# EAGLE library part ULN200 (library omcTransistor)
ULN200x - Seven Darlington Arrays seven darlingtons per package output current 500mA per driver (600mA peak) output voltage 50V integrated suppression diodes for inductive loads outputs can be paralleled for higher current TTL/CMOS/PMOS/DTL compatible inputs inputs pinned opposite outputs to simplyfy layout STMicroelectronics Datasheet <http://www.st.com/web/en/resource/technical/document/datasheet/CD00001244.pdf> Reichelt Datasheet <http://cdn-reichelt.de/documents/datenblatt/A200/DS_ULN2003_TOS.pdf> Logic level types Type Logic Level ULN2001 General Purpose, DTL, TTL, PMOS, CMOS ULN2002 14-25V PMOS ULN2003 5V TTL, CMOS ULN2004 6–15V CMOS, PMOS Distributor Reichelt: available Conrad: available Digi-Key:
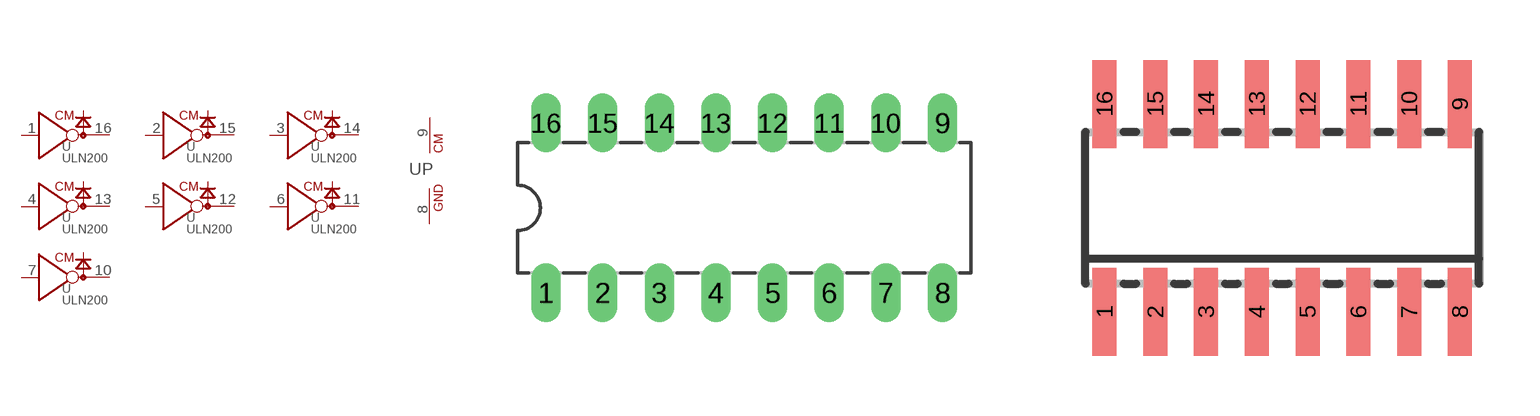
[diagram p1: symbol with the pads of DIL16; footprints DIL16, SOIC16]

Designator prefix U; gates P=GNDCM G$1=INVOC G$2=INVOC G$3=INVOC G$4=INVOC G$5=INVOC G$6=INVOC G$7=INVOC

## ULN2001A (DIST#REICHELT#: ULN 2001A; VALUE: ULN2001A; VENDOR#: STM#ULN2001A), ULN2002A (DIST#REICHELT#: ULN 2002A; VALUE: ULN2003A; VENDOR#: STM#ULN2002A), ULN2003A (DIST#REICHELT#: ULN 2003A; VALUE: ULN2003A; VENDOR#: STM#ULN2003A), ULN2004A (DIST#REICHELT#: ULN 2004A; VALUE: ULN2004A; VENDOR#: STM#ULN2004A)  [DIL16]
1  G$1:IN  in
2  G$2:IN  in
3  G$3:IN  in
4  G$4:IN  in
5  G$5:IN  in
6  G$6:IN  in
7  G$7:IN  in
8  P:GND  pwr
9  P:CM+  pwr
10  G$7:OUT  oc
11  G$6:OUT  oc
12  G$5:OUT  oc
13  G$4:OUT  oc
14  G$3:OUT  oc
15  G$2:OUT  oc
16  G$1:OUT  oc

## ULN2001D (VALUE: ULN2001D; VENDOR#: STM#ULN2001D1013TR), ULN2002D (VALUE: ULN2002D; VENDOR#: STM#ULN2002D1013TR), ULN2003D (DIST#REICHELT#: ULN 2003 AD SMD; VALUE: ULN2003D; VENDOR#: STM#ULN2003D1013TR), ULN2004D (DIST#REICHELT#: ULN 2004 AD SMD; VALUE: ULN2004D; VENDOR#: STM#ULN2003D1013TR)  [SOIC16]
1  G$1:IN  in
2  G$2:IN  in
3  G$4:IN  in
4  G$3:IN  in
5  G$5:IN  in
6  G$6:IN  in
7  G$7:IN  in
8  P:GND  pwr
9  P:CM+  pwr
10  G$7:OUT  oc
11  G$6:OUT  oc
12  G$5:OUT  oc
13  G$3:OUT  oc
14  G$4:OUT  oc
15  G$2:OUT  oc
16  G$1:OUT  oc

## Footprint DIL16 (pad centres in mm)
DIL16 DIP16 THT 19.45mm×7.62mm Mechanical <http://www.onsemi.com/pub_link/Collateral/646AP.PDF> Wikipedia <https://en.wikipedia.org/wiki/Dual_in-line_package>
drill 0.813 long: 1 -8.89,-3.81; 2 -6.35,-3.81; 3 -3.81,-3.81; 4 -1.27,-3.81; 5 1.27,-3.81; 6 3.81,-3.81; 7 6.35,-3.81; 8 8.89,-3.81; 9 8.89,3.81; 10 6.35,3.81; 11 3.81,3.81; 12 1.27,3.81; 13 -1.27,3.81; 14 -3.81,3.81; 15 -6.35,3.81; 16 -8.89,3.81

## Footprint SOIC16 (pad centres in mm)
SOIC16 SMD 10mm×4mm Wikipedia <https://en.wikipedia.org/wiki/Small_Outline_Integrated_Circuit>
smd 0.6 x 2.2: 1 -4.445,-2.6; 2 -3.175,-2.6; 3 -1.905,-2.6; 4 -0.635,-2.6; 5 0.635,-2.6; 6 1.905,-2.6; 7 3.175,-2.6; 8 4.445,-2.6; 9 4.445,2.6; 10 3.175,2.6; 11 1.905,2.6; 12 0.635,2.6; 13 -0.635,2.6; 14 -1.905,2.6; 15 -3.175,2.6; 16 -4.445,2.6